# EAGLE library part ENC28J60 (library Microchip)
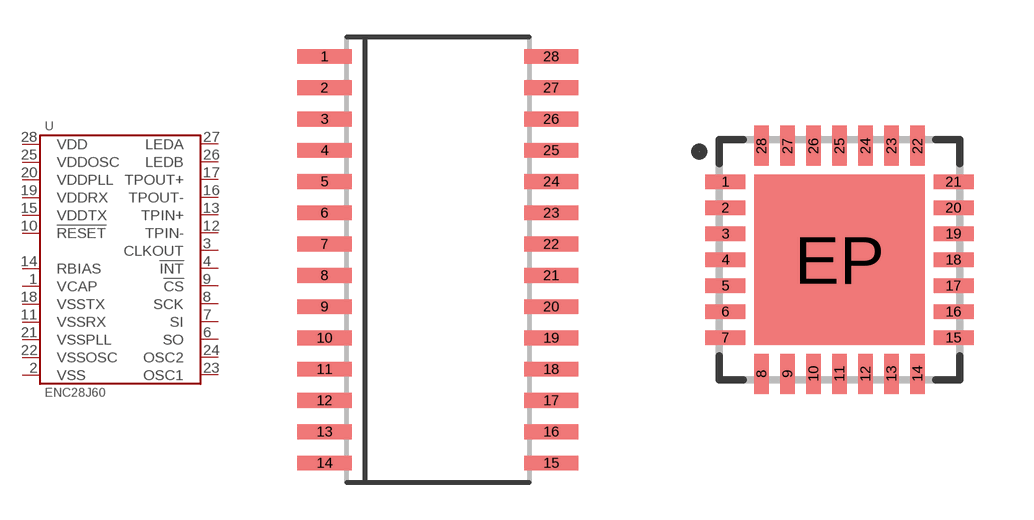
[diagram p4: symbol with the pads of SOIC-28; footprints SOIC-28, QFN-28]

Designator prefix U

## ENC28J60-SO  [SOIC-28]
1  VCAP
2  VSS
3  CLKOUT
4  !INT
6  SO
7  SI
8  SCK
9  !CS
10  !RESET
11  VSSRX
12  TPIN-
13  TPIN+
14  RBIAS
15  VDDTX
16  TPOUT-
17  TPOUT+
18  VSSTX
19  VDDRX
20  VDDPLL
21  VSSPLL
22  VSSOSC
23  OSC1
24  OSC2
25  VDDOSC
26  LEDB
27  LEDA
28  VDD

## ENC28J60-QFN  [QFN-28]
2  SO
3  SI
4  SCK
5  !CS
6  !RESET
7  VSSRX
8  TPIN-
9  TPIN+
10  RBIAS
11  VDDTX
12  TPOUT-
13  TPOUT+
14  VSSTX
15  VDDRX
16  VDDPLL
17  VSSPLL
18  VSSOSC
19  OSC1
20  OSC2
21  VDDOSC
22  LEDB
23  LEDA
24  VDD
25  VCAP
26  VSS
27  CLKOUT
28  !INT
EP  VSS

## ENC28J60-SSO  [SSOP-28]
Pads as for SOIC-28

## Footprint SOIC-28 (pad centres in mm)
smd 2.2 x 0.6: 1 -4.6,8.255; 2 -4.6,6.985; 3 -4.6,5.715; 4 -4.6,4.445; 5 -4.6,3.175; 6 -4.6,1.905; 7 -4.6,0.635; 8 -4.6,-0.635; 9 -4.6,-1.905; 10 -4.6,-3.175; 11 -4.6,-4.445; 12 -4.6,-5.715; 13 -4.6,-6.985; 14 -4.6,-8.255; 15 4.6,-8.255; 16 4.6,-6.985; 17 4.6,-5.715; 18 4.6,-4.445; 19 4.6,-3.175; 20 4.6,-1.905; 21 4.6,-0.635; 22 4.6,0.635; 23 4.6,1.905; 24 4.6,3.175; 25 4.6,4.445; 26 4.6,5.715; 27 4.6,6.985; 28 4.6,8.255

## Footprint QFN-28 (pad centres in mm)
smd 1 x 0.37: 1 -2.85,1.95; 2 -2.85,1.3; 3 -2.85,0.65; 4 -2.85,0; 5 -2.85,-0.65; 6 -2.85,-1.3; 7 -2.85,-1.95; 15 2.85,-1.95; 16 2.85,-1.3; 17 2.85,-0.65; 18 2.85,0; 19 2.85,0.65; 20 2.85,1.3; 21 2.85,1.95
smd 0.37 x 1: 8 -1.95,-2.85; 9 -1.3,-2.85; 10 -0.65,-2.85; 11 0,-2.85; 12 0.65,-2.85; 13 1.3,-2.85; 14 1.95,-2.85; 22 1.95,2.85; 23 1.3,2.85; 24 0.65,2.85; 25 0,2.85; 26 -0.65,2.85; 27 -1.3,2.85; 28 -1.95,2.85
smd 4.25 x 4.25: EP 0,0

## Footprint SSOP-28 (pad centres in mm)
smd 1.75 x 0.45: 1 -3.6,4.225; 2 -3.6,3.575; 3 -3.6,2.925; 4 -3.6,2.275; 5 -3.6,1.625; 6 -3.6,0.975; 7 -3.6,0.325; 8 -3.6,-0.325; 9 -3.6,-0.975; 10 -3.6,-1.625; 11 -3.6,-2.275; 12 -3.6,-2.925; 13 -3.6,-3.575; 14 -3.6,-4.225; 15 3.6,-4.225; 16 3.6,-3.575; 17 3.6,-2.925; 18 3.6,-2.275; 19 3.6,-1.625; 20 3.6,-0.975; 21 3.6,-0.325; 22 3.6,0.325; 23 3.6,0.975; 24 3.6,1.625; 25 3.6,2.275; 26 3.6,2.925; 27 3.6,3.575; 28 3.6,4.225